# Altium schematic symbol library TB6612FNG_C_8_EL.SchLib: 1 symbol
Pins are listed as number, name and electrical type; pins without a type are passive.

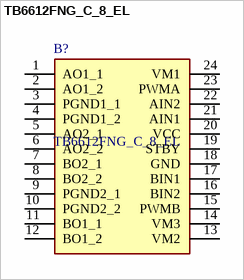
[diagram p0: symbol TB6612FNG_C_8_EL]

## TB6612FNG_C_8_EL
designator B?
otor / Motion / Ignition Controllers & Drivers Brush Motor Driver IC; Manufacturer_Name: Toshiba; Manufacturer_Part_Number: TB6612FNG,C,8,EL; Geometry.Height: 1.6mm; Mouser Part Number: 757-TB6612FNGC8EL; Mouser Price/Stock: https://www.mouser.co.uk/ProductDetail/Toshiba/TB6612FNGC8EL?qs=rsevcuukUAy2UalRuv4E%2FQ%3D%3D; Datasheet Link: http://toshiba.semicon-storage.com/info/docget.jsp?did=10660&prodName=TB6612FNG
footprint SOP65P760X160-24N
pins: 1 AO1_1, 2 AO1_2, 3 PGND1_1, 4 PGND1_2, 5 AO2_1, 6 AO2_2, 7 BO2_1, 8 BO2_2, 9 PGND2_1, 10 PGND2_2, 11 BO1_1, 12 BO1_2, 13 VM2, 14 VM3, 15 PWMB, 16 BIN2, 17 BIN1, 18 GND, 19 STBY, 20 VCC, 21 AIN1, 22 AIN2, 23 PWMA, 24 VM1